# Altium footprint library Altera Footprints.PcbLib: 132 footprints (part 7 of 12)
Each footprint in its own frame and in the unit in brackets; x right, y up, seen from the top. Pads: shape width x height; smd on the part's side, far side on the other; paste and mask are expansions set on the pad; w line width, h text height; cw(c..) or ccw(c..) is an arc to the next point about the centre after c.
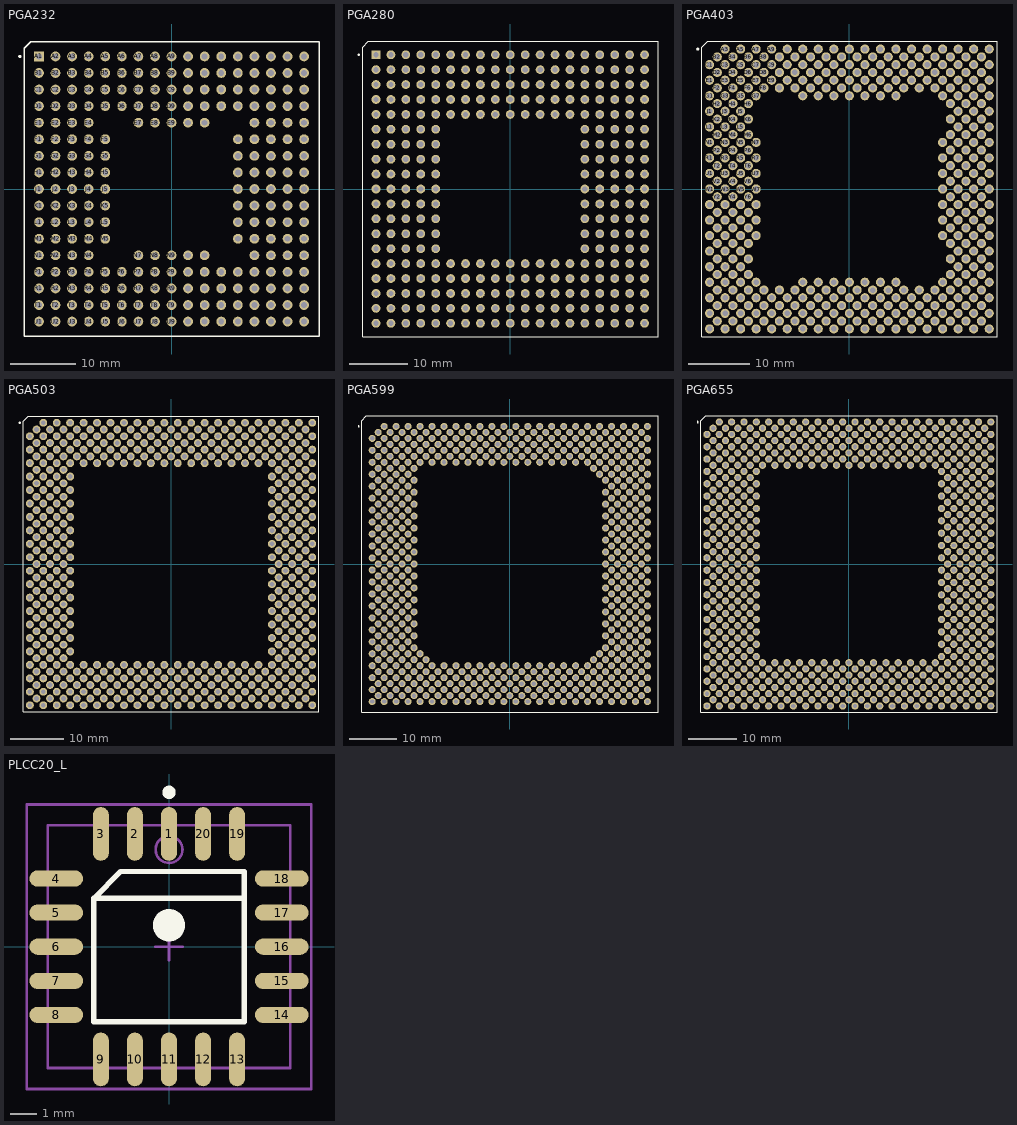
[diagram p6: the footprints below, top view; thin cyan lines are the x and y axes]

## PGA232 [mm] "232-Pin Ceramic Pin Grid Array (PGA232)"
height 5.21
pads (232):
  rect 1.5x1.5 hole 0.9: A1(-20.32,20.32)
  round 1.5 hole 0.9: A2(-17.78,20.32) A3(-15.24,20.32) A4(-12.7,20.32) A5(-10.16,20.32) A6(-7.62,20.32) A7(-5.08,20.32) A8(-2.54,20.32) A9(0,20.32) A10(2.54,20.32) A11(5.08,20.32) A12(7.62,20.32) A13(10.16,20.32) A14(12.7,20.32) A15(15.24,20.32) A16(17.78,20.32) A17(20.32,20.32) B1(-20.32,17.78) B2(-17.78,17.78) B3(-15.24,17.78) B4(-12.7,17.78) B5(-10.16,17.78) B6(-7.62,17.78) B7(-5.08,17.78) B8(-2.54,17.78) B9(0,17.78) B10(2.54,17.78) B11(5.08,17.78) B12(7.62,17.78) B13(10.16,17.78) B14(12.7,17.78) B15(15.24,17.78) B16(17.78,17.78) B17(20.32,17.78) C1(-20.32,15.24) C2(-17.78,15.24) C3(-15.24,15.24) C4(-12.7,15.24) C5(-10.16,15.24) C6(-7.62,15.24) C7(-5.08,15.24) C8(-2.54,15.24) C9(0,15.24) C10(2.54,15.24) C11(5.08,15.24) C12(7.62,15.24) C13(10.16,15.24) C14(12.7,15.24) C15(15.24,15.24) C16(17.78,15.24) C17(20.32,15.24) D1(-20.32,12.7) D2(-17.78,12.7) D3(-15.24,12.7) D4(-12.7,12.7) D5(-10.16,12.7) D6(-7.62,12.7) D7(-5.08,12.7) D8(-2.54,12.7) D9(0,12.7) D10(2.54,12.7) D11(5.08,12.7) D12(7.62,12.7) D13(10.16,12.7) D14(12.7,12.7) D15(15.24,12.7) D16(17.78,12.7) D17(20.32,12.7) E1(-20.32,10.16) E2(-17.78,10.16) E3(-15.24,10.16) E4(-12.7,10.16) E7(-5.08,10.16) E8(-2.54,10.16) E9(0,10.16) E10(2.54,10.16) E11(5.08,10.16) E14(12.7,10.16) E15(15.24,10.16) E16(17.78,10.16) E17(20.32,10.16) F1(-20.32,7.62) F2(-17.78,7.62) F3(-15.24,7.62) F4(-12.7,7.62) F5(-10.16,7.62) F13(10.16,7.62) F14(12.7,7.62) F15(15.24,7.62) F16(17.78,7.62) F17(20.32,7.62) G1(-20.32,5.08) G2(-17.78,5.08) G3(-15.24,5.08) G4(-12.7,5.08) G5(-10.16,5.08) G13(10.16,5.08) G14(12.7,5.08) G15(15.24,5.08) G16(17.78,5.08) G17(20.32,5.08) H1(-20.32,2.54) H2(-17.78,2.54) H3(-15.24,2.54) H4(-12.7,2.54) H5(-10.16,2.54) H13(10.16,2.54) H14(12.7,2.54) H15(15.24,2.54) H16(17.78,2.54) H17(20.32,2.54) J1(-20.32,0) J2(-17.78,0) J3(-15.24,0) J4(-12.7,0) J5(-10.16,0) J13(10.16,0) J14(12.7,0) J15(15.24,0) J16(17.78,0) J17(20.32,0) K1(-20.32,-2.54) K2(-17.78,-2.54) K3(-15.24,-2.54) K4(-12.7,-2.54) K5(-10.16,-2.54) K13(10.16,-2.54) K14(12.7,-2.54) K15(15.24,-2.54) K16(17.78,-2.54) K17(20.32,-2.54) L1(-20.32,-5.08) L2(-17.78,-5.08) L3(-15.24,-5.08) L4(-12.7,-5.08) L5(-10.16,-5.08) L13(10.16,-5.08) L14(12.7,-5.08) L15(15.24,-5.08) L16(17.78,-5.08) L17(20.32,-5.08) M1(-20.32,-7.62) M2(-17.78,-7.62) M3(-15.24,-7.62) M4(-12.7,-7.62) M5(-10.16,-7.62) M13(10.16,-7.62) M14(12.7,-7.62) M15(15.24,-7.62) M16(17.78,-7.62) M17(20.32,-7.62) N1(-20.32,-10.16) N2(-17.78,-10.16) N3(-15.24,-10.16) N4(-12.7,-10.16) N7(-5.08,-10.16) N8(-2.54,-10.16) N9(0,-10.16) N10(2.54,-10.16) N11(5.08,-10.16) N14(12.7,-10.16) N15(15.24,-10.16) N16(17.78,-10.16) N17(20.32,-10.16) P1(-20.32,-12.7) P2(-17.78,-12.7) P3(-15.24,-12.7) P4(-12.7,-12.7) P5(-10.16,-12.7) P6(-7.62,-12.7) P7(-5.08,-12.7) P8(-2.54,-12.7) P9(0,-12.7) P10(2.54,-12.7) P11(5.08,-12.7) P12(7.62,-12.7) P13(10.16,-12.7) P14(12.7,-12.7) P15(15.24,-12.7) P16(17.78,-12.7) P17(20.32,-12.7) R1(-20.32,-15.24) R2(-17.78,-15.24) R3(-15.24,-15.24) R4(-12.7,-15.24) R5(-10.16,-15.24) R6(-7.62,-15.24) R7(-5.08,-15.24) R8(-2.54,-15.24) R9(0,-15.24) R10(2.54,-15.24) R11(5.08,-15.24) R12(7.62,-15.24) R13(10.16,-15.24) R14(12.7,-15.24) R15(15.24,-15.24) R16(17.78,-15.24) R17(20.32,-15.24) T1(-20.32,-17.78) T2(-17.78,-17.78) T3(-15.24,-17.78) T4(-12.7,-17.78) T5(-10.16,-17.78) T6(-7.62,-17.78) T7(-5.08,-17.78) T8(-2.54,-17.78) T9(0,-17.78) T10(2.54,-17.78) T11(5.08,-17.78) T12(7.62,-17.78) T13(10.16,-17.78) T14(12.7,-17.78) T15(15.24,-17.78) T16(17.78,-17.78) T17(20.32,-17.78) U1(-20.32,-20.32) U2(-17.78,-20.32) U3(-15.24,-20.32) U4(-12.7,-20.32) U5(-10.16,-20.32) U6(-7.62,-20.32) U7(-5.08,-20.32) U8(-2.54,-20.32) U9(0,-20.32) U10(2.54,-20.32) U11(5.08,-20.32) U12(7.62,-20.32) U13(10.16,-20.32) U14(12.7,-20.32) U15(15.24,-20.32) U16(17.78,-20.32) U17(20.32,-20.32)
Top Overlay:
  circle w0.25: c-23.25,20.32 r0.125
  lines w0.2: -22.6,-22.6 22.6,-22.6 22.6,22.6 -21.6,22.6 -22.6,21.6 -22.6,-22.6

## PGA280 [mm] "280-Pin Ceramic Pin Grid Array (PGA280)"
height 5.08
pads (280):
  rect 1.5x1.5 hole 0.9: A1(-22.86,22.86)
  round 1.5 hole 0.9: A2(-20.32,22.86) A3(-17.78,22.86) A4(-15.24,22.86) A5(-12.7,22.86) A6(-10.16,22.86) A7(-7.62,22.86) A8(-5.08,22.86) A9(-2.54,22.86) A10(0,22.86) A11(2.54,22.86) A12(5.08,22.86) A13(7.62,22.86) A14(10.16,22.86) A15(12.7,22.86) A16(15.24,22.86) A17(17.78,22.86) A18(20.32,22.86) A19(22.86,22.86) B1(-22.86,20.32) B2(-20.32,20.32) B3(-17.78,20.32) B4(-15.24,20.32) B5(-12.7,20.32) B6(-10.16,20.32) B7(-7.62,20.32) B8(-5.08,20.32) B9(-2.54,20.32) B10(0,20.32) B11(2.54,20.32) B12(5.08,20.32) B13(7.62,20.32) B14(10.16,20.32) B15(12.7,20.32) B16(15.24,20.32) B17(17.78,20.32) B18(20.32,20.32) B19(22.86,20.32) C1(-22.86,17.78) C2(-20.32,17.78) C3(-17.78,17.78) C4(-15.24,17.78) C5(-12.7,17.78) C6(-10.16,17.78) C7(-7.62,17.78) C8(-5.08,17.78) C9(-2.54,17.78) C10(0,17.78) C11(2.54,17.78) C12(5.08,17.78) C13(7.62,17.78) C14(10.16,17.78) C15(12.7,17.78) C16(15.24,17.78) C17(17.78,17.78) C18(20.32,17.78) C19(22.86,17.78) D1(-22.86,15.24) D2(-20.32,15.24) D3(-17.78,15.24) D4(-15.24,15.24) D5(-12.7,15.24) D6(-10.16,15.24) D7(-7.62,15.24) D8(-5.08,15.24) D9(-2.54,15.24) D10(0,15.24) D11(2.54,15.24) D12(5.08,15.24) D13(7.62,15.24) D14(10.16,15.24) D15(12.7,15.24) D16(15.24,15.24) D17(17.78,15.24) D18(20.32,15.24) D19(22.86,15.24) E1(-22.86,12.7) E2(-20.32,12.7) E3(-17.78,12.7) E4(-15.24,12.7) E5(-12.7,12.7) E6(-10.16,12.7) E7(-7.62,12.7) E8(-5.08,12.7) E9(-2.54,12.7) E10(0,12.7) E11(2.54,12.7) E12(5.08,12.7) E13(7.62,12.7) E14(10.16,12.7) E15(12.7,12.7) E16(15.24,12.7) E17(17.78,12.7) E18(20.32,12.7) E19(22.86,12.7) F1(-22.86,10.16) F2(-20.32,10.16) F3(-17.78,10.16) F4(-15.24,10.16) F5(-12.7,10.16) F15(12.7,10.16) F16(15.24,10.16) F17(17.78,10.16) F18(20.32,10.16) F19(22.86,10.16) G1(-22.86,7.62) G2(-20.32,7.62) G3(-17.78,7.62) G4(-15.24,7.62) G5(-12.7,7.62) G15(12.7,7.62) G16(15.24,7.62) G17(17.78,7.62) G18(20.32,7.62) G19(22.86,7.62) H1(-22.86,5.08) H2(-20.32,5.08) H3(-17.78,5.08) H4(-15.24,5.08) H5(-12.7,5.08) H15(12.7,5.08) H16(15.24,5.08) H17(17.78,5.08) H18(20.32,5.08) H19(22.86,5.08) J1(-22.86,2.54) J2(-20.32,2.54) J3(-17.78,2.54) J4(-15.24,2.54) J5(-12.7,2.54) J15(12.7,2.54) J16(15.24,2.54) J17(17.78,2.54) J18(20.32,2.54) J19(22.86,2.54) K1(-22.86,0) K2(-20.32,0) K3(-17.78,0) K4(-15.24,0) K5(-12.7,0) K15(12.7,0) K16(15.24,0) K17(17.78,0) K18(20.32,0) K19(22.86,0) L1(-22.86,-2.54) L2(-20.32,-2.54) L3(-17.78,-2.54) L4(-15.24,-2.54) L5(-12.7,-2.54) L15(12.7,-2.54) L16(15.24,-2.54) L17(17.78,-2.54) L18(20.32,-2.54) L19(22.86,-2.54) M1(-22.86,-5.08) M2(-20.32,-5.08) M3(-17.78,-5.08) M4(-15.24,-5.08) M5(-12.7,-5.08) M15(12.7,-5.08) M16(15.24,-5.08) M17(17.78,-5.08) M18(20.32,-5.08) M19(22.86,-5.08) N1(-22.86,-7.62) N2(-20.32,-7.62) N3(-17.78,-7.62) N4(-15.24,-7.62) N5(-12.7,-7.62) N15(12.7,-7.62) N16(15.24,-7.62) N17(17.78,-7.62) N18(20.32,-7.62) N19(22.86,-7.62) P1(-22.86,-10.16) P2(-20.32,-10.16) P3(-17.78,-10.16) P4(-15.24,-10.16) P5(-12.7,-10.16) P15(12.7,-10.16) P16(15.24,-10.16) P17(17.78,-10.16) P18(20.32,-10.16) P19(22.86,-10.16) R1(-22.86,-12.7) R2(-20.32,-12.7) R3(-17.78,-12.7) R4(-15.24,-12.7) R5(-12.7,-12.7) R6(-10.16,-12.7) R7(-7.62,-12.7) R8(-5.08,-12.7) R9(-2.54,-12.7) R10(0,-12.7) R11(2.54,-12.7) R12(5.08,-12.7) R13(7.62,-12.7) R14(10.16,-12.7) R15(12.7,-12.7) R16(15.24,-12.7) R17(17.78,-12.7) R18(20.32,-12.7) R19(22.86,-12.7) T1(-22.86,-15.24) T2(-20.32,-15.24) T3(-17.78,-15.24) T4(-15.24,-15.24) T5(-12.7,-15.24) T6(-10.16,-15.24) T7(-7.62,-15.24) T8(-5.08,-15.24) T9(-2.54,-15.24) T10(0,-15.24) T11(2.54,-15.24) T12(5.08,-15.24) T13(7.62,-15.24) T14(10.16,-15.24) T15(12.7,-15.24) T16(15.24,-15.24) T17(17.78,-15.24) T18(20.32,-15.24) T19(22.86,-15.24) U1(-22.86,-17.78) U2(-20.32,-17.78) U3(-17.78,-17.78) U4(-15.24,-17.78) U5(-12.7,-17.78) U6(-10.16,-17.78) U7(-7.62,-17.78) U8(-5.08,-17.78) U9(-2.54,-17.78) U10(0,-17.78) U11(2.54,-17.78) U12(5.08,-17.78) U13(7.62,-17.78) U14(10.16,-17.78) U15(12.7,-17.78) U16(15.24,-17.78) U17(17.78,-17.78) U18(20.32,-17.78) U19(22.86,-17.78) V1(-22.86,-20.32) V2(-20.32,-20.32) V3(-17.78,-20.32) V4(-15.24,-20.32) V5(-12.7,-20.32) V6(-10.16,-20.32) V7(-7.62,-20.32) V8(-5.08,-20.32) V9(-2.54,-20.32) V10(0,-20.32) V11(2.54,-20.32) V12(5.08,-20.32) V13(7.62,-20.32) V14(10.16,-20.32) V15(12.7,-20.32) V16(15.24,-20.32) V17(17.78,-20.32) V18(20.32,-20.32) V19(22.86,-20.32) W1(-22.86,-22.86) W2(-20.32,-22.86) W3(-17.78,-22.86) W4(-15.24,-22.86) W5(-12.7,-22.86) W6(-10.16,-22.86) W7(-7.62,-22.86) W8(-5.08,-22.86) W9(-2.54,-22.86) W10(0,-22.86) W11(2.54,-22.86) W12(5.08,-22.86) W13(7.62,-22.86) W14(10.16,-22.86) W15(12.7,-22.86) W16(15.24,-22.86) W17(17.78,-22.86) W18(20.32,-22.86) W19(22.86,-22.86)
Top Overlay:
  circle w0.25: c-25.8,22.86 r0.125
  lines w0.2: -25.15,-25.15 25.15,-25.15 25.15,25.15 -24.15,25.15 -25.15,24.15 -25.15,-25.15

## PGA403 [mm] "403-Pin Ceramic Pin Grid Array (PGA403)"
height 5.03
pads (403):
  round 1.5 hole 0.9: A3(-20.32,22.86) A5(-17.78,22.86) A7(-15.24,22.86) A9(-12.7,22.86) A11(-10.16,22.86) A13(-7.62,22.86) A15(-5.08,22.86) A17(-2.54,22.86) A19(0,22.86) A21(2.54,22.86) A23(5.08,22.86) A25(7.62,22.86) A27(10.16,22.86) A29(12.7,22.86) A31(15.24,22.86) A33(17.78,22.86) A35(20.32,22.86) A37(22.86,22.86) AA1(-22.86,-2.54) AA3(-20.32,-2.54) AA5(-17.78,-2.54) AA7(-15.24,-2.54) AA31(15.24,-2.54) AA33(17.78,-2.54) AA35(20.32,-2.54) AA37(22.86,-2.54) AB2(-21.59,-3.81) AB4(-19.05,-3.81) AB6(-16.51,-3.81) AB32(16.51,-3.81) AB34(19.05,-3.81) AB36(21.59,-3.81) AC1(-22.86,-5.08) AC3(-20.32,-5.08) AC5(-17.78,-5.08) AC7(-15.24,-5.08) AC31(15.24,-5.08) AC33(17.78,-5.08) AC35(20.32,-5.08) AC37(22.86,-5.08) AD2(-21.59,-6.35) AD4(-19.05,-6.35) AD6(-16.51,-6.35) AD32(16.51,-6.35) AD34(19.05,-6.35) AD36(21.59,-6.35) AE1(-22.86,-7.62) AE3(-20.32,-7.62) AE5(-17.78,-7.62) AE7(-15.24,-7.62) AE31(15.24,-7.62) AE33(17.78,-7.62) AE35(20.32,-7.62) AE37(22.86,-7.62) AF2(-21.59,-8.89) AF4(-19.05,-8.89) AF6(-16.51,-8.89) AF32(16.51,-8.89) AF34(19.05,-8.89) AF36(21.59,-8.89) AG1(-22.86,-10.16) AG3(-20.32,-10.16) AG5(-17.78,-10.16) AG33(17.78,-10.16) AG35(20.32,-10.16) AG37(22.86,-10.16) AH2(-21.59,-11.43) AH4(-19.05,-11.43) AH6(-16.51,-11.43) AH32(16.51,-11.43) AH34(19.05,-11.43) AH36(21.59,-11.43) AJ1(-22.86,-12.7) AJ3(-20.32,-12.7) AJ5(-17.78,-12.7) AJ33(17.78,-12.7) AJ35(20.32,-12.7) AJ37(22.86,-12.7) AK2(-21.59,-13.97) AK4(-19.05,-13.97) AK6(-16.51,-13.97) AK32(16.51,-13.97) AK34(19.05,-13.97) AK36(21.59,-13.97) AL1(-22.86,-15.24) AL3(-20.32,-15.24) AL5(-17.78,-15.24) AL7(-15.24,-15.24) AL13(-7.62,-15.24) AL15(-5.08,-15.24) AL17(-2.54,-15.24) AL19(0,-15.24) AL21(2.54,-15.24) AL23(5.08,-15.24) AL25(7.62,-15.24) AL31(15.24,-15.24) AL33(17.78,-15.24) AL35(20.32,-15.24) AL37(22.86,-15.24) AM2(-21.59,-16.51) AM4(-19.05,-16.51) AM6(-16.51,-16.51) AM8(-13.97,-16.51) AM10(-11.43,-16.51) AM12(-8.89,-16.51) AM14(-6.35,-16.51) AM16(-3.81,-16.51) AM18(-1.27,-16.51) AM20(1.27,-16.51) AM22(3.81,-16.51) AM24(6.35,-16.51) AM26(8.89,-16.51) AM28(11.43,-16.51) AM30(13.97,-16.51) AM32(16.51,-16.51) AM34(19.05,-16.51) AM36(21.59,-16.51) AN1(-22.86,-17.78) AN3(-20.32,-17.78) AN5(-17.78,-17.78) AN7(-15.24,-17.78) AN9(-12.7,-17.78) AN11(-10.16,-17.78) AN13(-7.62,-17.78) AN15(-5.08,-17.78) AN17(-2.54,-17.78) AN19(0,-17.78) AN21(2.54,-17.78) AN23(5.08,-17.78) AN25(7.62,-17.78) AN27(10.16,-17.78) AN29(12.7,-17.78) AN31(15.24,-17.78) AN33(17.78,-17.78) AN35(20.32,-17.78) AN37(22.86,-17.78) AP2(-21.59,-19.05) AP4(-19.05,-19.05) AP6(-16.51,-19.05) AP8(-13.97,-19.05) AP10(-11.43,-19.05) AP12(-8.89,-19.05) AP14(-6.35,-19.05) AP16(-3.81,-19.05) AP18(-1.27,-19.05) AP20(1.27,-19.05) AP22(3.81,-19.05) AP24(6.35,-19.05) AP26(8.89,-19.05) AP28(11.43,-19.05) AP30(13.97,-19.05) AP32(16.51,-19.05) AP34(19.05,-19.05) AP36(21.59,-19.05) AR1(-22.86,-20.32) AR3(-20.32,-20.32) AR5(-17.78,-20.32) AR7(-15.24,-20.32) AR9(-12.7,-20.32) AR11(-10.16,-20.32) AR13(-7.62,-20.32) AR15(-5.08,-20.32) AR17(-2.54,-20.32) AR19(0,-20.32) AR21(2.54,-20.32) AR23(5.08,-20.32) AR25(7.62,-20.32) AR27(10.16,-20.32) AR29(12.7,-20.32) AR31(15.24,-20.32) AR33(17.78,-20.32) AR35(20.32,-20.32) AR37(22.86,-20.32) AT2(-21.59,-21.59) AT4(-19.05,-21.59) AT6(-16.51,-21.59) AT8(-13.97,-21.59) AT10(-11.43,-21.59) AT12(-8.89,-21.59) AT14(-6.35,-21.59) AT16(-3.81,-21.59) AT18(-1.27,-21.59) AT20(1.27,-21.59) AT22(3.81,-21.59) AT24(6.35,-21.59) AT26(8.89,-21.59) AT28(11.43,-21.59) AT30(13.97,-21.59) AT32(16.51,-21.59) AT34(19.05,-21.59) AT36(21.59,-21.59) AU1(-22.86,-22.86) AU3(-20.32,-22.86) AU5(-17.78,-22.86) AU7(-15.24,-22.86) AU9(-12.7,-22.86) AU11(-10.16,-22.86) AU13(-7.62,-22.86) AU15(-5.08,-22.86) AU17(-2.54,-22.86) AU19(0,-22.86) AU21(2.54,-22.86) AU23(5.08,-22.86) AU25(7.62,-22.86) AU27(10.16,-22.86) AU29(12.7,-22.86) AU31(15.24,-22.86) AU33(17.78,-22.86) AU35(20.32,-22.86) AU37(22.86,-22.86) B2(-21.59,21.59) B4(-19.05,21.59) B6(-16.51,21.59) B8(-13.97,21.59) B10(-11.43,21.59) B12(-8.89,21.59) B14(-6.35,21.59) B16(-3.81,21.59) B18(-1.27,21.59) B20(1.27,21.59) B22(3.81,21.59) B24(6.35,21.59) B26(8.89,21.59) B28(11.43,21.59) B30(13.97,21.59) B32(16.51,21.59) B34(19.05,21.59) B36(21.59,21.59) C1(-22.86,20.32) C3(-20.32,20.32) C5(-17.78,20.32) C7(-15.24,20.32) C9(-12.7,20.32) C11(-10.16,20.32) C13(-7.62,20.32) C15(-5.08,20.32) C17(-2.54,20.32) C19(0,20.32) C21(2.54,20.32) C23(5.08,20.32) C25(7.62,20.32) C27(10.16,20.32) C29(12.7,20.32) C31(15.24,20.32) C33(17.78,20.32) C35(20.32,20.32) C37(22.86,20.32) D2(-21.59,19.05) D4(-19.05,19.05) D6(-16.51,19.05) D8(-13.97,19.05) D10(-11.43,19.05) D12(-8.89,19.05) D14(-6.35,19.05) D16(-3.81,19.05) D18(-1.27,19.05) D20(1.27,19.05) D22(3.81,19.05) D24(6.35,19.05) D26(8.89,19.05) D28(11.43,19.05) D30(13.97,19.05) D32(16.51,19.05) D34(19.05,19.05) D36(21.59,19.05) E1(-22.86,17.78) E3(-20.32,17.78) E5(-17.78,17.78) E7(-15.24,17.78) E9(-12.7,17.78) E11(-10.16,17.78) E13(-7.62,17.78) E15(-5.08,17.78) E17(-2.54,17.78) E19(0,17.78) E21(2.54,17.78) E23(5.08,17.78) E25(7.62,17.78) E27(10.16,17.78) E29(12.7,17.78) E31(15.24,17.78) E33(17.78,17.78) E35(20.32,17.78) E37(22.86,17.78) F2(-21.59,16.51) F4(-19.05,16.51) F6(-16.51,16.51) F8(-13.97,16.51) F10(-11.43,16.51) F12(-8.89,16.51) F14(-6.35,16.51) F16(-3.81,16.51) F18(-1.27,16.51) F20(1.27,16.51) F22(3.81,16.51) F24(6.35,16.51) F26(8.89,16.51) F28(11.43,16.51) F30(13.97,16.51) F32(16.51,16.51) F34(19.05,16.51) F36(21.59,16.51) G1(-22.86,15.24) G3(-20.32,15.24) G5(-17.78,15.24) G7(-15.24,15.24) G13(-7.62,15.24) G15(-5.08,15.24) G17(-2.54,15.24) G19(0,15.24) G21(2.54,15.24) G23(5.08,15.24) G25(7.62,15.24) G31(15.24,15.24) G33(17.78,15.24) G35(20.32,15.24) G37(22.86,15.24) H2(-21.59,13.97) H4(-19.05,13.97) H6(-16.51,13.97) H32(16.51,13.97) H34(19.05,13.97) H36(21.59,13.97) J1(-22.86,12.7) J3(-20.32,12.7) J5(-17.78,12.7) J33(17.78,12.7) J35(20.32,12.7) J37(22.86,12.7) K2(-21.59,11.43) K4(-19.05,11.43) K6(-16.51,11.43) K32(16.51,11.43) K34(19.05,11.43) K36(21.59,11.43) L1(-22.86,10.16) L3(-20.32,10.16) L5(-17.78,10.16) L33(17.78,10.16) L35(20.32,10.16) L37(22.86,10.16) M2(-21.59,8.89) M4(-19.05,8.89) M6(-16.51,8.89) M32(16.51,8.89) M34(19.05,8.89) M36(21.59,8.89) N1(-22.86,7.62) N3(-20.32,7.62) N5(-17.78,7.62) N7(-15.24,7.62) N31(15.24,7.62) N33(17.78,7.62) N35(20.32,7.62) N37(22.86,7.62) P2(-21.59,6.35) P4(-19.05,6.35) P6(-16.51,6.35) P32(16.51,6.35) P34(19.05,6.35) P36(21.59,6.35) R1(-22.86,5.08) R3(-20.32,5.08) R5(-17.78,5.08) R7(-15.24,5.08) R31(15.24,5.08) R33(17.78,5.08) R35(20.32,5.08) R37(22.86,5.08) T2(-21.59,3.81) T4(-19.05,3.81) T6(-16.51,3.81) T32(16.51,3.81) T34(19.05,3.81) T36(21.59,3.81) U1(-22.86,2.54) U3(-20.32,2.54) U5(-17.78,2.54) U7(-15.24,2.54) U31(15.24,2.54) U33(17.78,2.54) U35(20.32,2.54) U37(22.86,2.54) V2(-21.59,1.27) V4(-19.05,1.27) V6(-16.51,1.27) V32(16.51,1.27) V34(19.05,1.27) V36(21.59,1.27) W1(-22.86,0) W3(-20.32,0) W5(-17.78,0) W7(-15.24,0) W31(15.24,0) W33(17.78,0) W35(20.32,0) W37(22.86,0) Y2(-21.59,-1.27) Y4(-19.05,-1.27) Y6(-16.51,-1.27) Y32(16.51,-1.27) Y34(19.05,-1.27) Y36(21.59,-1.27)
Top Overlay:
  circle w0.25: c-24.78,22.86 r0.125
  lines w0.2: -24.13,-24.13 24.13,-24.13 24.13,24.13 -23.13,24.13 -24.13,23.13 -24.13,-24.13

## PGA503 [mm] "503-Pin Ceramic Pin Grid Array (PGA503)"
height 5.08
pads (503):
  round 1.5 hole 0.9: A3(-24.13,26.67) A5(-21.59,26.67) A7(-19.05,26.67) A9(-16.51,26.67) A11(-13.97,26.67) A13(-11.43,26.67) A15(-8.89,26.67) A17(-6.35,26.67) A19(-3.81,26.67) A21(-1.27,26.67) A23(1.27,26.67) A25(3.81,26.67) A27(6.35,26.67) A29(8.89,26.67) A31(11.43,26.67) A33(13.97,26.67) A35(16.51,26.67) A37(19.05,26.67) A39(21.59,26.67) A41(24.13,26.67) A43(26.67,26.67) AA1(-26.67,1.27) AA3(-24.13,1.27) AA5(-21.59,1.27) AA7(-19.05,1.27) AA37(19.05,1.27) AA39(21.59,1.27) AA41(24.13,1.27) AA43(26.67,1.27) AB2(-25.4,0) AB4(-22.86,0) AB6(-20.32,0) AB38(20.32,0) AB40(22.86,0) AB42(25.4,0) AC1(-26.67,-1.27) AC3(-24.13,-1.27) AC5(-21.59,-1.27) AC7(-19.05,-1.27) AC37(19.05,-1.27) AC39(21.59,-1.27) AC41(24.13,-1.27) AC43(26.67,-1.27) AD2(-25.4,-2.54) AD4(-22.86,-2.54) AD6(-20.32,-2.54) AD38(20.32,-2.54) AD40(22.86,-2.54) AD42(25.4,-2.54) AE1(-26.67,-3.81) AE3(-24.13,-3.81) AE5(-21.59,-3.81) AE7(-19.05,-3.81) AE37(19.05,-3.81) AE39(21.59,-3.81) AE41(24.13,-3.81) AE43(26.67,-3.81) AF2(-25.4,-5.08) AF4(-22.86,-5.08) AF6(-20.32,-5.08) AF38(20.32,-5.08) AF40(22.86,-5.08) AF42(25.4,-5.08) AG1(-26.67,-6.35) AG3(-24.13,-6.35) AG5(-21.59,-6.35) AG7(-19.05,-6.35) AG37(19.05,-6.35) AG39(21.59,-6.35) AG41(24.13,-6.35) AG43(26.67,-6.35) AH2(-25.4,-7.62) AH4(-22.86,-7.62) AH6(-20.32,-7.62) AH38(20.32,-7.62) AH40(22.86,-7.62) AH42(25.4,-7.62) AJ1(-26.67,-8.89) AJ3(-24.13,-8.89) AJ5(-21.59,-8.89) AJ7(-19.05,-8.89) AJ37(19.05,-8.89) AJ39(21.59,-8.89) AJ41(24.13,-8.89) AJ43(26.67,-8.89) AK2(-25.4,-10.16) AK4(-22.86,-10.16) AK6(-20.32,-10.16) AK38(20.32,-10.16) AK40(22.86,-10.16) AK42(25.4,-10.16) AL1(-26.67,-11.43) AL3(-24.13,-11.43) AL5(-21.59,-11.43) AL7(-19.05,-11.43) AL37(19.05,-11.43) AL39(21.59,-11.43) AL41(24.13,-11.43) AL43(26.67,-11.43) AM2(-25.4,-12.7) AM4(-22.86,-12.7) AM6(-20.32,-12.7) AM38(20.32,-12.7) AM40(22.86,-12.7) AM42(25.4,-12.7) AN1(-26.67,-13.97) AN3(-24.13,-13.97) AN5(-21.59,-13.97) AN7(-19.05,-13.97) AN37(19.05,-13.97) AN39(21.59,-13.97) AN41(24.13,-13.97) AN43(26.67,-13.97) AP2(-25.4,-15.24) AP4(-22.86,-15.24) AP6(-20.32,-15.24) AP38(20.32,-15.24) AP40(22.86,-15.24) AP42(25.4,-15.24) AR1(-26.67,-16.51) AR3(-24.13,-16.51) AR5(-21.59,-16.51) AR7(-19.05,-16.51) AR37(19.05,-16.51) AR39(21.59,-16.51) AR41(24.13,-16.51) AR43(26.67,-16.51) AT2(-25.4,-17.78) AT4(-22.86,-17.78) AT6(-20.32,-17.78) AT38(20.32,-17.78) AT40(22.86,-17.78) AT42(25.4,-17.78) AU1(-26.67,-19.05) AU3(-24.13,-19.05) AU5(-21.59,-19.05) AU7(-19.05,-19.05) AU9(-16.51,-19.05) AU11(-13.97,-19.05) AU13(-11.43,-19.05) AU15(-8.89,-19.05) AU17(-6.35,-19.05) AU19(-3.81,-19.05) AU21(-1.27,-19.05) AU23(1.27,-19.05) AU25(3.81,-19.05) AU27(6.35,-19.05) AU29(8.89,-19.05) AU31(11.43,-19.05) AU33(13.97,-19.05) AU35(16.51,-19.05) AU37(19.05,-19.05) AU39(21.59,-19.05) AU41(24.13,-19.05) AU43(26.67,-19.05) AV2(-25.4,-20.32) AV4(-22.86,-20.32) AV6(-20.32,-20.32) AV8(-17.78,-20.32) AV10(-15.24,-20.32) AV12(-12.7,-20.32) AV14(-10.16,-20.32) AV16(-7.62,-20.32) AV18(-5.08,-20.32) AV20(-2.54,-20.32) AV22(0,-20.32) AV24(2.54,-20.32) AV26(5.08,-20.32) AV28(7.62,-20.32) AV30(10.16,-20.32) AV32(12.7,-20.32) AV34(15.24,-20.32) AV36(17.78,-20.32) AV38(20.32,-20.32) AV40(22.86,-20.32) AV42(25.4,-20.32) AW1(-26.67,-21.59) AW3(-24.13,-21.59) AW5(-21.59,-21.59) AW7(-19.05,-21.59) AW9(-16.51,-21.59) AW11(-13.97,-21.59) AW13(-11.43,-21.59) AW15(-8.89,-21.59) AW17(-6.35,-21.59) AW19(-3.81,-21.59) AW21(-1.27,-21.59) AW23(1.27,-21.59) AW25(3.81,-21.59) AW27(6.35,-21.59) AW29(8.89,-21.59) AW31(11.43,-21.59) AW33(13.97,-21.59) AW35(16.51,-21.59) AW37(19.05,-21.59) AW39(21.59,-21.59) AW41(24.13,-21.59) AW43(26.67,-21.59) AY2(-25.4,-22.86) AY4(-22.86,-22.86) AY6(-20.32,-22.86) AY8(-17.78,-22.86) AY10(-15.24,-22.86) AY12(-12.7,-22.86) AY14(-10.16,-22.86) AY16(-7.62,-22.86) AY18(-5.08,-22.86) AY20(-2.54,-22.86) AY22(0,-22.86) AY24(2.54,-22.86) AY26(5.08,-22.86) AY28(7.62,-22.86) AY30(10.16,-22.86) AY32(12.7,-22.86) AY34(15.24,-22.86) AY36(17.78,-22.86) AY38(20.32,-22.86) AY40(22.86,-22.86) AY42(25.4,-22.86) B2(-25.4,25.4) B4(-22.86,25.4) B6(-20.32,25.4) B8(-17.78,25.4) B10(-15.24,25.4) B12(-12.7,25.4) B14(-10.16,25.4) B16(-7.62,25.4) B18(-5.08,25.4) B20(-2.54,25.4) B22(0,25.4) B24(2.54,25.4) B26(5.08,25.4) B28(7.62,25.4) B30(10.16,25.4) B32(12.7,25.4) B34(15.24,25.4) B36(17.78,25.4) B38(20.32,25.4) B40(22.86,25.4) B42(25.4,25.4) BA1(-26.67,-24.13) BA3(-24.13,-24.13) BA5(-21.59,-24.13) BA7(-19.05,-24.13) BA9(-16.51,-24.13) BA11(-13.97,-24.13) BA13(-11.43,-24.13) BA15(-8.89,-24.13) BA17(-6.35,-24.13) BA19(-3.81,-24.13) BA21(-1.27,-24.13) BA23(1.27,-24.13) BA25(3.81,-24.13) BA27(6.35,-24.13) BA29(8.89,-24.13) BA31(11.43,-24.13) BA33(13.97,-24.13) BA35(16.51,-24.13) BA37(19.05,-24.13) BA39(21.59,-24.13) BA41(24.13,-24.13) BA43(26.67,-24.13) BB2(-25.4,-25.4) BB4(-22.86,-25.4) BB6(-20.32,-25.4) BB8(-17.78,-25.4) BB10(-15.24,-25.4) BB12(-12.7,-25.4) BB14(-10.16,-25.4) BB16(-7.62,-25.4) BB18(-5.08,-25.4) BB20(-2.54,-25.4) BB22(0,-25.4) BB24(2.54,-25.4) BB26(5.08,-25.4) BB28(7.62,-25.4) BB30(10.16,-25.4) BB32(12.7,-25.4) BB34(15.24,-25.4) BB36(17.78,-25.4) BB38(20.32,-25.4) BB40(22.86,-25.4) BB42(25.4,-25.4) BC1(-26.67,-26.67) BC3(-24.13,-26.67) BC5(-21.59,-26.67) BC7(-19.05,-26.67) BC9(-16.51,-26.67) BC11(-13.97,-26.67) BC13(-11.43,-26.67) BC15(-8.89,-26.67) BC17(-6.35,-26.67) BC19(-3.81,-26.67) BC21(-1.27,-26.67) BC23(1.27,-26.67) BC25(3.81,-26.67) BC27(6.35,-26.67) BC29(8.89,-26.67) BC31(11.43,-26.67) BC33(13.97,-26.67) BC35(16.51,-26.67) BC37(19.05,-26.67) BC39(21.59,-26.67) BC41(24.13,-26.67) BC43(26.67,-26.67) C1(-26.67,24.13) C3(-24.13,24.13) C5(-21.59,24.13) C7(-19.05,24.13) C9(-16.51,24.13) C11(-13.97,24.13) C13(-11.43,24.13) C15(-8.89,24.13) C17(-6.35,24.13) C19(-3.81,24.13) C21(-1.27,24.13) C23(1.27,24.13) C25(3.81,24.13) C27(6.35,24.13) C29(8.89,24.13) C31(11.43,24.13) C33(13.97,24.13) C35(16.51,24.13) C37(19.05,24.13) C39(21.59,24.13) C41(24.13,24.13) C43(26.67,24.13) D2(-25.4,22.86) D4(-22.86,22.86) D6(-20.32,22.86) D8(-17.78,22.86) D10(-15.24,22.86) D12(-12.7,22.86) D14(-10.16,22.86) D16(-7.62,22.86) D18(-5.08,22.86) D20(-2.54,22.86) D22(0,22.86) D24(2.54,22.86) D26(5.08,22.86) D28(7.62,22.86) D30(10.16,22.86) D32(12.7,22.86) D34(15.24,22.86) D36(17.78,22.86) D38(20.32,22.86) D40(22.86,22.86) D42(25.4,22.86) E1(-26.67,21.59) E3(-24.13,21.59) E5(-21.59,21.59) E7(-19.05,21.59) E9(-16.51,21.59) E11(-13.97,21.59) E13(-11.43,21.59) E15(-8.89,21.59) E17(-6.35,21.59) E19(-3.81,21.59) E21(-1.27,21.59) E23(1.27,21.59) E25(3.81,21.59) E27(6.35,21.59) E29(8.89,21.59) E31(11.43,21.59) E33(13.97,21.59) E35(16.51,21.59) E37(19.05,21.59) E39(21.59,21.59) E41(24.13,21.59) E43(26.67,21.59) F2(-25.4,20.32) F4(-22.86,20.32) F6(-20.32,20.32) F8(-17.78,20.32) F10(-15.24,20.32) F12(-12.7,20.32) F14(-10.16,20.32) F16(-7.62,20.32) F18(-5.08,20.32) F20(-2.54,20.32) F22(0,20.32) F24(2.54,20.32) F26(5.08,20.32) F28(7.62,20.32) F30(10.16,20.32) F32(12.7,20.32) F34(15.24,20.32) F36(17.78,20.32) F38(20.32,20.32) F40(22.86,20.32) F42(25.4,20.32) G1(-26.67,19.05) G3(-24.13,19.05) G5(-21.59,19.05) G7(-19.05,19.05) G9(-16.51,19.05) G11(-13.97,19.05) G13(-11.43,19.05) G15(-8.89,19.05) G17(-6.35,19.05) G19(-3.81,19.05) G21(-1.27,19.05) G23(1.27,19.05) G25(3.81,19.05) G27(6.35,19.05) G29(8.89,19.05) G31(11.43,19.05) G33(13.97,19.05) G35(16.51,19.05) G37(19.05,19.05) G39(21.59,19.05) G41(24.13,19.05) G43(26.67,19.05) H2(-25.4,17.78) H4(-22.86,17.78) H6(-20.32,17.78) H38(20.32,17.78) H40(22.86,17.78) H42(25.4,17.78) J1(-26.67,16.51) J3(-24.13,16.51) J5(-21.59,16.51) J7(-19.05,16.51) J37(19.05,16.51) J39(21.59,16.51) J41(24.13,16.51) J43(26.67,16.51) K2(-25.4,15.24) K4(-22.86,15.24) K6(-20.32,15.24) K38(20.32,15.24) K40(22.86,15.24) K42(25.4,15.24) L1(-26.67,13.97) L3(-24.13,13.97) L5(-21.59,13.97) L7(-19.05,13.97) L37(19.05,13.97) L39(21.59,13.97) L41(24.13,13.97) L43(26.67,13.97) M2(-25.4,12.7) M4(-22.86,12.7) M6(-20.32,12.7) M38(20.32,12.7) M40(22.86,12.7) M42(25.4,12.7) N1(-26.67,11.43) N3(-24.13,11.43) N5(-21.59,11.43) N7(-19.05,11.43) N37(19.05,11.43) N39(21.59,11.43) N41(24.13,11.43) N43(26.67,11.43) P2(-25.4,10.16) P4(-22.86,10.16) P6(-20.32,10.16) P38(20.32,10.16) P40(22.86,10.16) P42(25.4,10.16) R1(-26.67,8.89) R3(-24.13,8.89) R5(-21.59,8.89) R7(-19.05,8.89) R37(19.05,8.89) R39(21.59,8.89) R41(24.13,8.89) R43(26.67,8.89) T2(-25.4,7.62) T4(-22.86,7.62) T6(-20.32,7.62) T38(20.32,7.62) T40(22.86,7.62) T42(25.4,7.62) U1(-26.67,6.35) U3(-24.13,6.35) U5(-21.59,6.35) U7(-19.05,6.35) U37(19.05,6.35) U39(21.59,6.35) U41(24.13,6.35) U43(26.67,6.35) V2(-25.4,5.08) V4(-22.86,5.08) V6(-20.32,5.08) V38(20.32,5.08) V40(22.86,5.08) V42(25.4,5.08) W1(-26.67,3.81) W3(-24.13,3.81) W5(-21.59,3.81) W7(-19.05,3.81) W37(19.05,3.81) W39(21.59,3.81) W41(24.13,3.81) W43(26.67,3.81) Y2(-25.4,2.54) Y4(-22.86,2.54) Y6(-20.32,2.54) Y38(20.32,2.54) Y40(22.86,2.54) Y42(25.4,2.54)
Top Overlay:
  circle w0.25: c-28.59,26.67 r0.125
  lines w0.2: -27.94,-27.94 27.94,-27.94 27.94,27.94 -26.94,27.94 -27.94,26.94 -27.94,-27.94

## PGA599 [mm] "599-Pin Ceramic Pin Grid Array (PGA599)"
height 5.08
pads (599):
  round 1.5 hole 0.9: A3(-26.67,29.21) A5(-24.13,29.21) A7(-21.59,29.21) A9(-19.05,29.21) A11(-16.51,29.21) A13(-13.97,29.21) A15(-11.43,29.21) A17(-8.89,29.21) A19(-6.35,29.21) A21(-3.81,29.21) A23(-1.27,29.21) A25(1.27,29.21) A27(3.81,29.21) A29(6.35,29.21) A31(8.89,29.21) A33(11.43,29.21) A35(13.97,29.21) A37(16.51,29.21) A39(19.05,29.21) A41(21.59,29.21) A43(24.13,29.21) A45(26.67,29.21) A47(29.21,29.21) AA1(-29.21,3.81) AA3(-26.67,3.81) AA5(-24.13,3.81) AA7(-21.59,3.81) AA41(21.59,3.81) AA43(24.13,3.81) AA45(26.67,3.81) AA47(29.21,3.81) AB2(-27.94,2.54) AB4(-25.4,2.54) AB6(-22.86,2.54) AB8(-20.32,2.54) AB40(20.32,2.54) AB42(22.86,2.54) AB44(25.4,2.54) AB46(27.94,2.54) AC1(-29.21,1.27) AC3(-26.67,1.27) AC5(-24.13,1.27) AC7(-21.59,1.27) AC41(21.59,1.27) AC43(24.13,1.27) AC45(26.67,1.27) AC47(29.21,1.27) AD2(-27.94,0) AD4(-25.4,0) AD6(-22.86,0) AD8(-20.32,0) AD40(20.32,0) AD42(22.86,0) AD44(25.4,0) AD46(27.94,0) AE1(-29.21,-1.27) AE3(-26.67,-1.27) AE5(-24.13,-1.27) AE7(-21.59,-1.27) AE41(21.59,-1.27) AE43(24.13,-1.27) AE45(26.67,-1.27) AE47(29.21,-1.27) AF2(-27.94,-2.54) AF4(-25.4,-2.54) AF6(-22.86,-2.54) AF8(-20.32,-2.54) AF40(20.32,-2.54) AF42(22.86,-2.54) AF44(25.4,-2.54) AF46(27.94,-2.54) AG1(-29.21,-3.81) AG3(-26.67,-3.81) AG5(-24.13,-3.81) AG7(-21.59,-3.81) AG41(21.59,-3.81) AG43(24.13,-3.81) AG45(26.67,-3.81) AG47(29.21,-3.81) AH2(-27.94,-5.08) AH4(-25.4,-5.08) AH6(-22.86,-5.08) AH8(-20.32,-5.08) AH40(20.32,-5.08) AH42(22.86,-5.08) AH44(25.4,-5.08) AH46(27.94,-5.08) AJ1(-29.21,-6.35) AJ3(-26.67,-6.35) AJ5(-24.13,-6.35) AJ7(-21.59,-6.35) AJ41(21.59,-6.35) AJ43(24.13,-6.35) AJ45(26.67,-6.35) AJ47(29.21,-6.35) AK2(-27.94,-7.62) AK4(-25.4,-7.62) AK6(-22.86,-7.62) AK8(-20.32,-7.62) AK40(20.32,-7.62) AK42(22.86,-7.62) AK44(25.4,-7.62) AK46(27.94,-7.62) AL1(-29.21,-8.89) AL3(-26.67,-8.89) AL5(-24.13,-8.89) AL7(-21.59,-8.89) AL41(21.59,-8.89) AL43(24.13,-8.89) AL45(26.67,-8.89) AL47(29.21,-8.89) AM2(-27.94,-10.16) AM4(-25.4,-10.16) AM6(-22.86,-10.16) AM8(-20.32,-10.16) AM40(20.32,-10.16) AM42(22.86,-10.16) AM44(25.4,-10.16) AM46(27.94,-10.16) AN1(-29.21,-11.43) AN3(-26.67,-11.43) AN5(-24.13,-11.43) AN7(-21.59,-11.43) AN41(21.59,-11.43) AN43(24.13,-11.43) AN45(26.67,-11.43) AN47(29.21,-11.43) AP2(-27.94,-12.7) AP4(-25.4,-12.7) AP6(-22.86,-12.7) AP8(-20.32,-12.7) AP40(20.32,-12.7) AP42(22.86,-12.7) AP44(25.4,-12.7) AP46(27.94,-12.7) AR1(-29.21,-13.97) AR3(-26.67,-13.97) AR5(-24.13,-13.97) AR7(-21.59,-13.97) AR41(21.59,-13.97) AR43(24.13,-13.97) AR45(26.67,-13.97) AR47(29.21,-13.97) AT2(-27.94,-15.24) AT4(-25.4,-15.24) AT6(-22.86,-15.24) AT8(-20.32,-15.24) AT40(20.32,-15.24) AT42(22.86,-15.24) AT44(25.4,-15.24) AT46(27.94,-15.24) AU1(-29.21,-16.51) AU3(-26.67,-16.51) AU5(-24.13,-16.51) AU7(-21.59,-16.51) AU41(21.59,-16.51) AU43(24.13,-16.51) AU45(26.67,-16.51) AU47(29.21,-16.51) AV2(-27.94,-17.78) AV4(-25.4,-17.78) AV6(-22.86,-17.78) AV8(-20.32,-17.78) AV40(20.32,-17.78) AV42(22.86,-17.78) AV44(25.4,-17.78) AV46(27.94,-17.78) AW1(-29.21,-19.05) AW3(-26.67,-19.05) AW5(-24.13,-19.05) AW7(-21.59,-19.05) AW9(-19.05,-19.05) AW39(19.05,-19.05) AW41(21.59,-19.05) AW43(24.13,-19.05) AW45(26.67,-19.05) AW47(29.21,-19.05) AY2(-27.94,-20.32) AY4(-25.4,-20.32) AY6(-22.86,-20.32) AY8(-20.32,-20.32) AY10(-17.78,-20.32) AY38(17.78,-20.32) AY40(20.32,-20.32) AY42(22.86,-20.32) AY44(25.4,-20.32) AY46(27.94,-20.32) B2(-27.94,27.94) B4(-25.4,27.94) B6(-22.86,27.94) B8(-20.32,27.94) B10(-17.78,27.94) B12(-15.24,27.94) B14(-12.7,27.94) B16(-10.16,27.94) B18(-7.62,27.94) B20(-5.08,27.94) B22(-2.54,27.94) B24(0,27.94) B26(2.54,27.94) B28(5.08,27.94) B30(7.62,27.94) B32(10.16,27.94) B34(12.7,27.94) B36(15.24,27.94) B38(17.78,27.94) B40(20.32,27.94) B42(22.86,27.94) B44(25.4,27.94) B46(27.94,27.94) BA1(-29.21,-21.59) BA3(-26.67,-21.59) BA5(-24.13,-21.59) BA7(-21.59,-21.59) BA9(-19.05,-21.59) BA11(-16.51,-21.59) BA13(-13.97,-21.59) BA15(-11.43,-21.59) BA17(-8.89,-21.59) BA19(-6.35,-21.59) BA21(-3.81,-21.59) BA23(-1.27,-21.59) BA25(1.27,-21.59) BA27(3.81,-21.59) BA29(6.35,-21.59) BA31(8.89,-21.59) BA33(11.43,-21.59) BA35(13.97,-21.59) BA37(16.51,-21.59) BA39(19.05,-21.59) BA41(21.59,-21.59) BA43(24.13,-21.59) BA45(26.67,-21.59) BA47(29.21,-21.59) BB2(-27.94,-22.86) BB4(-25.4,-22.86) BB6(-22.86,-22.86) BB8(-20.32,-22.86) BB10(-17.78,-22.86) BB12(-15.24,-22.86) BB14(-12.7,-22.86) BB16(-10.16,-22.86) BB18(-7.62,-22.86) BB20(-5.08,-22.86) BB22(-2.54,-22.86) BB24(0,-22.86) BB26(2.54,-22.86) BB28(5.08,-22.86) BB30(7.62,-22.86) BB32(10.16,-22.86) BB34(12.7,-22.86) BB36(15.24,-22.86) BB38(17.78,-22.86) BB40(20.32,-22.86) BB42(22.86,-22.86) BB44(25.4,-22.86) BB46(27.94,-22.86) BC1(-29.21,-24.13) BC3(-26.67,-24.13) BC5(-24.13,-24.13) BC7(-21.59,-24.13) BC9(-19.05,-24.13) BC11(-16.51,-24.13) BC13(-13.97,-24.13) BC15(-11.43,-24.13) BC17(-8.89,-24.13) BC19(-6.35,-24.13) BC21(-3.81,-24.13) BC23(-1.27,-24.13) BC25(1.27,-24.13) BC27(3.81,-24.13) BC29(6.35,-24.13) BC31(8.89,-24.13) BC33(11.43,-24.13) BC35(13.97,-24.13) BC37(16.51,-24.13) BC39(19.05,-24.13) BC41(21.59,-24.13) BC43(24.13,-24.13) BC45(26.67,-24.13) BC47(29.21,-24.13) BD2(-27.94,-25.4) BD4(-25.4,-25.4) BD6(-22.86,-25.4) BD8(-20.32,-25.4) BD10(-17.78,-25.4) BD12(-15.24,-25.4) BD14(-12.7,-25.4) BD16(-10.16,-25.4) BD18(-7.62,-25.4) BD20(-5.08,-25.4) BD22(-2.54,-25.4) BD24(0,-25.4) BD26(2.54,-25.4) BD28(5.08,-25.4) BD30(7.62,-25.4) BD32(10.16,-25.4) BD34(12.7,-25.4) BD36(15.24,-25.4) BD38(17.78,-25.4) BD40(20.32,-25.4) BD42(22.86,-25.4) BD44(25.4,-25.4) BD46(27.94,-25.4) BE1(-29.21,-26.67) BE3(-26.67,-26.67) BE5(-24.13,-26.67) BE7(-21.59,-26.67) BE9(-19.05,-26.67) BE11(-16.51,-26.67) BE13(-13.97,-26.67) BE15(-11.43,-26.67) BE17(-8.89,-26.67) BE19(-6.35,-26.67) BE21(-3.81,-26.67) BE23(-1.27,-26.67) BE25(1.27,-26.67) BE27(3.81,-26.67) BE29(6.35,-26.67) BE31(8.89,-26.67) BE33(11.43,-26.67) BE35(13.97,-26.67) BE37(16.51,-26.67) BE39(19.05,-26.67) BE41(21.59,-26.67) BE43(24.13,-26.67) BE45(26.67,-26.67) BE47(29.21,-26.67) BF2(-27.94,-27.94) BF4(-25.4,-27.94) BF6(-22.86,-27.94) BF8(-20.32,-27.94) BF10(-17.78,-27.94) BF12(-15.24,-27.94) BF14(-12.7,-27.94) BF16(-10.16,-27.94) BF18(-7.62,-27.94) BF20(-5.08,-27.94) BF22(-2.54,-27.94) BF24(0,-27.94) BF26(2.54,-27.94) BF28(5.08,-27.94) BF30(7.62,-27.94) BF32(10.16,-27.94) BF34(12.7,-27.94) BF36(15.24,-27.94) BF38(17.78,-27.94) BF40(20.32,-27.94) BF42(22.86,-27.94) BF44(25.4,-27.94) BF46(27.94,-27.94) BG1(-29.21,-29.21) BG3(-26.67,-29.21) BG5(-24.13,-29.21) BG7(-21.59,-29.21) BG9(-19.05,-29.21) BG11(-16.51,-29.21) BG13(-13.97,-29.21) BG15(-11.43,-29.21) BG17(-8.89,-29.21) BG19(-6.35,-29.21) BG21(-3.81,-29.21) BG23(-1.27,-29.21) BG25(1.27,-29.21) BG27(3.81,-29.21) BG29(6.35,-29.21) BG31(8.89,-29.21) BG33(11.43,-29.21) BG35(13.97,-29.21) BG37(16.51,-29.21) BG39(19.05,-29.21) BG41(21.59,-29.21) BG43(24.13,-29.21) BG45(26.67,-29.21) BG47(29.21,-29.21) C1(-29.21,26.67) C3(-26.67,26.67) C5(-24.13,26.67) C7(-21.59,26.67) C9(-19.05,26.67) C11(-16.51,26.67) C13(-13.97,26.67) C15(-11.43,26.67) C17(-8.89,26.67) C19(-6.35,26.67) C21(-3.81,26.67) C23(-1.27,26.67) C25(1.27,26.67) C27(3.81,26.67) C29(6.35,26.67) C31(8.89,26.67) C33(11.43,26.67) C35(13.97,26.67) C37(16.51,26.67) C39(19.05,26.67) C41(21.59,26.67) C43(24.13,26.67) C45(26.67,26.67) C47(29.21,26.67) D2(-27.94,25.4) D4(-25.4,25.4) D6(-22.86,25.4) D8(-20.32,25.4) D10(-17.78,25.4) D12(-15.24,25.4) D14(-12.7,25.4) D16(-10.16,25.4) D18(-7.62,25.4) D20(-5.08,25.4) D22(-2.54,25.4) D24(0,25.4) D26(2.54,25.4) D28(5.08,25.4) D30(7.62,25.4) D32(10.16,25.4) D34(12.7,25.4) D36(15.24,25.4) D38(17.78,25.4) D40(20.32,25.4) D42(22.86,25.4) D44(25.4,25.4) D46(27.94,25.4) E1(-29.21,24.13) E3(-26.67,24.13) E5(-24.13,24.13) E7(-21.59,24.13) E9(-19.05,24.13) E11(-16.51,24.13) E13(-13.97,24.13) E15(-11.43,24.13) E17(-8.89,24.13) E19(-6.35,24.13) E21(-3.81,24.13) E23(-1.27,24.13) E25(1.27,24.13) E27(3.81,24.13) E29(6.35,24.13) E31(8.89,24.13) E33(11.43,24.13) E35(13.97,24.13) E37(16.51,24.13) E39(19.05,24.13) E41(21.59,24.13) E43(24.13,24.13) E45(26.67,24.13) E47(29.21,24.13) F2(-27.94,22.86) F4(-25.4,22.86) F6(-22.86,22.86) F8(-20.32,22.86) F10(-17.78,22.86) F12(-15.24,22.86) F14(-12.7,22.86) F16(-10.16,22.86) F18(-7.62,22.86) F20(-5.08,22.86) F22(-2.54,22.86) F24(0,22.86) F26(2.54,22.86) F28(5.08,22.86) F30(7.62,22.86) F32(10.16,22.86) F34(12.7,22.86) F36(15.24,22.86) F38(17.78,22.86) F40(20.32,22.86) F42(22.86,22.86) F44(25.4,22.86) F46(27.94,22.86) G1(-29.21,21.59) G3(-26.67,21.59) G5(-24.13,21.59) G7(-21.59,21.59) G9(-19.05,21.59) G11(-16.51,21.59) G13(-13.97,21.59) G15(-11.43,21.59) G17(-8.89,21.59) G19(-6.35,21.59) G21(-3.81,21.59) G23(-1.27,21.59) G25(1.27,21.59) G27(3.81,21.59) G29(6.35,21.59) G31(8.89,21.59) G33(11.43,21.59) G35(13.97,21.59) G37(16.51,21.59) G39(19.05,21.59) G41(21.59,21.59) G43(24.13,21.59) G45(26.67,21.59) G47(29.21,21.59) H2(-27.94,20.32) H4(-25.4,20.32) H6(-22.86,20.32) H8(-20.32,20.32) H38(17.78,20.32) H40(20.32,20.32) H42(22.86,20.32) H44(25.4,20.32) H46(27.94,20.32) J1(-29.21,19.05) J3(-26.67,19.05) J5(-24.13,19.05) J7(-21.59,19.05) J39(19.05,19.05) J41(21.59,19.05) J43(24.13,19.05) J45(26.67,19.05) J47(29.21,19.05) K2(-27.94,17.78) K4(-25.4,17.78) K6(-22.86,17.78) K8(-20.32,17.78) K40(20.32,17.78) K42(22.86,17.78) K44(25.4,17.78) K46(27.94,17.78) L1(-29.21,16.51) L3(-26.67,16.51) L5(-24.13,16.51) L7(-21.59,16.51) L41(21.59,16.51) L43(24.13,16.51) L45(26.67,16.51) L47(29.21,16.51) M2(-27.94,15.24) M4(-25.4,15.24) M6(-22.86,15.24) M8(-20.32,15.24) M40(20.32,15.24) M42(22.86,15.24) M44(25.4,15.24) M46(27.94,15.24) N1(-29.21,13.97) N3(-26.67,13.97) N5(-24.13,13.97) N7(-21.59,13.97) N41(21.59,13.97) N43(24.13,13.97) N45(26.67,13.97) N47(29.21,13.97) P2(-27.94,12.7) P4(-25.4,12.7) P6(-22.86,12.7) P8(-20.32,12.7) P40(20.32,12.7) P42(22.86,12.7) P44(25.4,12.7) P46(27.94,12.7) R1(-29.21,11.43) R3(-26.67,11.43) R5(-24.13,11.43) R7(-21.59,11.43) R41(21.59,11.43) R43(24.13,11.43) R45(26.67,11.43) R47(29.21,11.43) T2(-27.94,10.16) T4(-25.4,10.16) T6(-22.86,10.16) T8(-20.32,10.16) T40(20.32,10.16) T42(22.86,10.16) T44(25.4,10.16) T46(27.94,10.16) U1(-29.21,8.89) U3(-26.67,8.89) U5(-24.13,8.89) U7(-21.59,8.89) U41(21.59,8.89) U43(24.13,8.89) U45(26.67,8.89) U47(29.21,8.89) V2(-27.94,7.62) V4(-25.4,7.62) V6(-22.86,7.62) V8(-20.32,7.62) V40(20.32,7.62) V42(22.86,7.62) V44(25.4,7.62) V46(27.94,7.62) W1(-29.21,6.35) W3(-26.67,6.35) W5(-24.13,6.35) W7(-21.59,6.35) W41(21.59,6.35) W43(24.13,6.35) W45(26.67,6.35) W47(29.21,6.35) Y2(-27.94,5.08) Y4(-25.4,5.08) Y6(-22.86,5.08) Y8(-20.32,5.08) Y40(20.32,5.08) Y42(22.86,5.08) Y44(25.4,5.08) Y46(27.94,5.08)
Top Overlay:
  circle w0.25: c-32.1,29.21 r0.125
  lines w0.2: -31.45,-31.45 -31.45,30.45 -30.45,31.45 31.45,31.45 31.45,-31.45 -31.45,-31.45

## PGA655 [mm] "655-Pin Ceramic Pin Grid Array (PGA655)"
height 5.08
pads (655):
  round 1.5 hole 0.9: A3(-26.67,29.21) A5(-24.13,29.21) A7(-21.59,29.21) A9(-19.05,29.21) A11(-16.51,29.21) A13(-13.97,29.21) A15(-11.43,29.21) A17(-8.89,29.21) A19(-6.35,29.21) A21(-3.81,29.21) A23(-1.27,29.21) A25(1.27,29.21) A27(3.81,29.21) A29(6.35,29.21) A31(8.89,29.21) A33(11.43,29.21) A35(13.97,29.21) A37(16.51,29.21) A39(19.05,29.21) A41(21.59,29.21) A43(24.13,29.21) A45(26.67,29.21) A47(29.21,29.21) AA1(-29.21,3.81) AA3(-26.67,3.81) AA5(-24.13,3.81) AA7(-21.59,3.81) AA9(-19.05,3.81) AA39(19.05,3.81) AA41(21.59,3.81) AA43(24.13,3.81) AA45(26.67,3.81) AA47(29.21,3.81) AB2(-27.94,2.54) AB4(-25.4,2.54) AB6(-22.86,2.54) AB8(-20.32,2.54) AB40(20.32,2.54) AB42(22.86,2.54) AB44(25.4,2.54) AB46(27.94,2.54) AC1(-29.21,1.27) AC3(-26.67,1.27) AC5(-24.13,1.27) AC7(-21.59,1.27) AC9(-19.05,1.27) AC39(19.05,1.27) AC41(21.59,1.27) AC43(24.13,1.27) AC45(26.67,1.27) AC47(29.21,1.27) AD2(-27.94,0) AD4(-25.4,0) AD6(-22.86,0) AD8(-20.32,0) AD40(20.32,0) AD42(22.86,0) AD44(25.4,0) AD46(27.94,0) AE1(-29.21,-1.27) AE3(-26.67,-1.27) AE5(-24.13,-1.27) AE7(-21.59,-1.27) AE9(-19.05,-1.27) AE39(19.05,-1.27) AE41(21.59,-1.27) AE43(24.13,-1.27) AE45(26.67,-1.27) AE47(29.21,-1.27) AF2(-27.94,-2.54) AF4(-25.4,-2.54) AF6(-22.86,-2.54) AF8(-20.32,-2.54) AF40(20.32,-2.54) AF42(22.86,-2.54) AF44(25.4,-2.54) AF46(27.94,-2.54) AG1(-29.21,-3.81) AG3(-26.67,-3.81) AG5(-24.13,-3.81) AG7(-21.59,-3.81) AG9(-19.05,-3.81) AG39(19.05,-3.81) AG41(21.59,-3.81) AG43(24.13,-3.81) AG45(26.67,-3.81) AG47(29.21,-3.81) AH2(-27.94,-5.08) AH4(-25.4,-5.08) AH6(-22.86,-5.08) AH8(-20.32,-5.08) AH40(20.32,-5.08) AH42(22.86,-5.08) AH44(25.4,-5.08) AH46(27.94,-5.08) AJ1(-29.21,-6.35) AJ3(-26.67,-6.35) AJ5(-24.13,-6.35) AJ7(-21.59,-6.35) AJ9(-19.05,-6.35) AJ39(19.05,-6.35) AJ41(21.59,-6.35) AJ43(24.13,-6.35) AJ45(26.67,-6.35) AJ47(29.21,-6.35) AK2(-27.94,-7.62) AK4(-25.4,-7.62) AK6(-22.86,-7.62) AK8(-20.32,-7.62) AK40(20.32,-7.62) AK42(22.86,-7.62) AK44(25.4,-7.62) AK46(27.94,-7.62) AL1(-29.21,-8.89) AL3(-26.67,-8.89) AL5(-24.13,-8.89) AL7(-21.59,-8.89) AL9(-19.05,-8.89) AL39(19.05,-8.89) AL41(21.59,-8.89) AL43(24.13,-8.89) AL45(26.67,-8.89) AL47(29.21,-8.89) AM2(-27.94,-10.16) AM4(-25.4,-10.16) AM6(-22.86,-10.16) AM8(-20.32,-10.16) AM40(20.32,-10.16) AM42(22.86,-10.16) AM44(25.4,-10.16) AM46(27.94,-10.16) AN1(-29.21,-11.43) AN3(-26.67,-11.43) AN5(-24.13,-11.43) AN7(-21.59,-11.43) AN9(-19.05,-11.43) AN39(19.05,-11.43) AN41(21.59,-11.43) AN43(24.13,-11.43) AN45(26.67,-11.43) AN47(29.21,-11.43) AP2(-27.94,-12.7) AP4(-25.4,-12.7) AP6(-22.86,-12.7) AP8(-20.32,-12.7) AP40(20.32,-12.7) AP42(22.86,-12.7) AP44(25.4,-12.7) AP46(27.94,-12.7) AR1(-29.21,-13.97) AR3(-26.67,-13.97) AR5(-24.13,-13.97) AR7(-21.59,-13.97) AR9(-19.05,-13.97) AR39(19.05,-13.97) AR41(21.59,-13.97) AR43(24.13,-13.97) AR45(26.67,-13.97) AR47(29.21,-13.97) AT2(-27.94,-15.24) AT4(-25.4,-15.24) AT6(-22.86,-15.24) AT8(-20.32,-15.24) AT40(20.32,-15.24) AT42(22.86,-15.24) AT44(25.4,-15.24) AT46(27.94,-15.24) AU1(-29.21,-16.51) AU3(-26.67,-16.51) AU5(-24.13,-16.51) AU7(-21.59,-16.51) AU9(-19.05,-16.51) AU39(19.05,-16.51) AU41(21.59,-16.51) AU43(24.13,-16.51) AU45(26.67,-16.51) AU47(29.21,-16.51) AV2(-27.94,-17.78) AV4(-25.4,-17.78) AV6(-22.86,-17.78) AV8(-20.32,-17.78) AV40(20.32,-17.78) AV42(22.86,-17.78) AV44(25.4,-17.78) AV46(27.94,-17.78) AW1(-29.21,-19.05) AW3(-26.67,-19.05) AW5(-24.13,-19.05) AW7(-21.59,-19.05) AW9(-19.05,-19.05) AW39(19.05,-19.05) AW41(21.59,-19.05) AW43(24.13,-19.05) AW45(26.67,-19.05) AW47(29.21,-19.05) AY2(-27.94,-20.32) AY4(-25.4,-20.32) AY6(-22.86,-20.32) AY8(-20.32,-20.32) AY10(-17.78,-20.32) AY12(-15.24,-20.32) AY14(-12.7,-20.32) AY16(-10.16,-20.32) AY18(-7.62,-20.32) AY20(-5.08,-20.32) AY22(-2.54,-20.32) AY24(0,-20.32) AY26(2.54,-20.32) AY28(5.08,-20.32) AY30(7.62,-20.32) AY32(10.16,-20.32) AY34(12.7,-20.32) AY36(15.24,-20.32) AY38(17.78,-20.32) AY40(20.32,-20.32) AY42(22.86,-20.32) AY44(25.4,-20.32) AY46(27.94,-20.32) B2(-27.94,27.94) B4(-25.4,27.94) B6(-22.86,27.94) B8(-20.32,27.94) B10(-17.78,27.94) B12(-15.24,27.94) B14(-12.7,27.94) B16(-10.16,27.94) B18(-7.62,27.94) B20(-5.08,27.94) B22(-2.54,27.94) B24(0,27.94) B26(2.54,27.94) B28(5.08,27.94) B30(7.62,27.94) B32(10.16,27.94) B34(12.7,27.94) B36(15.24,27.94) B38(17.78,27.94) B40(20.32,27.94) B42(22.86,27.94) B44(25.4,27.94) B46(27.94,27.94) BA1(-29.21,-21.59) BA3(-26.67,-21.59) BA5(-24.13,-21.59) BA7(-21.59,-21.59) BA9(-19.05,-21.59) BA11(-16.51,-21.59) BA13(-13.97,-21.59) BA15(-11.43,-21.59) BA17(-8.89,-21.59) BA19(-6.35,-21.59) BA21(-3.81,-21.59) BA23(-1.27,-21.59) BA25(1.27,-21.59) BA27(3.81,-21.59) BA29(6.35,-21.59) BA31(8.89,-21.59) BA33(11.43,-21.59) BA35(13.97,-21.59) BA37(16.51,-21.59) BA39(19.05,-21.59) BA41(21.59,-21.59) BA43(24.13,-21.59) BA45(26.67,-21.59) BA47(29.21,-21.59) BB2(-27.94,-22.86) BB4(-25.4,-22.86) BB6(-22.86,-22.86) BB8(-20.32,-22.86) BB10(-17.78,-22.86) BB12(-15.24,-22.86) BB14(-12.7,-22.86) BB16(-10.16,-22.86) BB18(-7.62,-22.86) BB20(-5.08,-22.86) BB22(-2.54,-22.86) BB24(0,-22.86) BB26(2.54,-22.86) BB28(5.08,-22.86) BB30(7.62,-22.86) BB32(10.16,-22.86) BB34(12.7,-22.86) BB36(15.24,-22.86) BB38(17.78,-22.86) BB40(20.32,-22.86) BB42(22.86,-22.86) BB44(25.4,-22.86) BB46(27.94,-22.86) BC1(-29.21,-24.13) BC3(-26.67,-24.13) BC5(-24.13,-24.13) BC7(-21.59,-24.13) BC9(-19.05,-24.13) BC11(-16.51,-24.13) BC13(-13.97,-24.13) BC15(-11.43,-24.13) BC17(-8.89,-24.13) BC19(-6.35,-24.13) BC21(-3.81,-24.13) BC23(-1.27,-24.13) BC25(1.27,-24.13) BC27(3.81,-24.13) BC29(6.35,-24.13) BC31(8.89,-24.13) BC33(11.43,-24.13) BC35(13.97,-24.13) BC37(16.51,-24.13) BC39(19.05,-24.13) BC41(21.59,-24.13) BC43(24.13,-24.13) BC45(26.67,-24.13) BC47(29.21,-24.13) BD2(-27.94,-25.4) BD4(-25.4,-25.4) BD6(-22.86,-25.4) BD8(-20.32,-25.4) BD10(-17.78,-25.4) BD12(-15.24,-25.4) BD14(-12.7,-25.4) BD16(-10.16,-25.4) BD18(-7.62,-25.4) BD20(-5.08,-25.4) BD22(-2.54,-25.4) BD24(0,-25.4) BD26(2.54,-25.4) BD28(5.08,-25.4) BD30(7.62,-25.4) BD32(10.16,-25.4) BD34(12.7,-25.4) BD36(15.24,-25.4) BD38(17.78,-25.4) BD40(20.32,-25.4) BD42(22.86,-25.4) BD44(25.4,-25.4) BD46(27.94,-25.4) BE1(-29.21,-26.67) BE3(-26.67,-26.67) BE5(-24.13,-26.67) BE7(-21.59,-26.67) BE9(-19.05,-26.67) BE11(-16.51,-26.67) BE13(-13.97,-26.67) BE15(-11.43,-26.67) BE17(-8.89,-26.67) BE19(-6.35,-26.67) BE21(-3.81,-26.67) BE23(-1.27,-26.67) BE25(1.27,-26.67) BE27(3.81,-26.67) BE29(6.35,-26.67) BE31(8.89,-26.67) BE33(11.43,-26.67) BE35(13.97,-26.67) BE37(16.51,-26.67) BE39(19.05,-26.67) BE41(21.59,-26.67) BE43(24.13,-26.67) BE45(26.67,-26.67) BE47(29.21,-26.67) BF2(-27.94,-27.94) BF4(-25.4,-27.94) BF6(-22.86,-27.94) BF8(-20.32,-27.94) BF10(-17.78,-27.94) BF12(-15.24,-27.94) BF14(-12.7,-27.94) BF16(-10.16,-27.94) BF18(-7.62,-27.94) BF20(-5.08,-27.94) BF22(-2.54,-27.94) BF24(0,-27.94) BF26(2.54,-27.94) BF28(5.08,-27.94) BF30(7.62,-27.94) BF32(10.16,-27.94) BF34(12.7,-27.94) BF36(15.24,-27.94) BF38(17.78,-27.94) BF40(20.32,-27.94) BF42(22.86,-27.94) BF44(25.4,-27.94) BF46(27.94,-27.94) BG1(-29.21,-29.21) BG3(-26.67,-29.21) BG5(-24.13,-29.21) BG7(-21.59,-29.21) BG9(-19.05,-29.21) BG11(-16.51,-29.21) BG13(-13.97,-29.21) BG15(-11.43,-29.21) BG17(-8.89,-29.21) BG19(-6.35,-29.21) BG21(-3.81,-29.21) BG23(-1.27,-29.21) BG25(1.27,-29.21) BG27(3.81,-29.21) BG29(6.35,-29.21) BG31(8.89,-29.21) BG33(11.43,-29.21) BG35(13.97,-29.21) BG37(16.51,-29.21) BG39(19.05,-29.21) BG41(21.59,-29.21) BG43(24.13,-29.21) BG45(26.67,-29.21) BG47(29.21,-29.21) C1(-29.21,26.67) C3(-26.67,26.67) C5(-24.13,26.67) C7(-21.59,26.67) C9(-19.05,26.67) C11(-16.51,26.67) C13(-13.97,26.67) C15(-11.43,26.67) C17(-8.89,26.67) C19(-6.35,26.67) C21(-3.81,26.67) C23(-1.27,26.67) C25(1.27,26.67) C27(3.81,26.67) C29(6.35,26.67) C31(8.89,26.67) C33(11.43,26.67) C35(13.97,26.67) C37(16.51,26.67) C39(19.05,26.67) C41(21.59,26.67) C43(24.13,26.67) C45(26.67,26.67) C47(29.21,26.67) D2(-27.94,25.4) D4(-25.4,25.4) D6(-22.86,25.4) D8(-20.32,25.4) D10(-17.78,25.4) D12(-15.24,25.4) D14(-12.7,25.4) D16(-10.16,25.4) D18(-7.62,25.4) D20(-5.08,25.4) D22(-2.54,25.4) D24(0,25.4) D26(2.54,25.4) D28(5.08,25.4) D30(7.62,25.4) D32(10.16,25.4) D34(12.7,25.4) D36(15.24,25.4) D38(17.78,25.4) D40(20.32,25.4) D42(22.86,25.4) D44(25.4,25.4) D46(27.94,25.4) E1(-29.21,24.13) E3(-26.67,24.13) E5(-24.13,24.13) E7(-21.59,24.13) E9(-19.05,24.13) E11(-16.51,24.13) E13(-13.97,24.13) E15(-11.43,24.13) E17(-8.89,24.13) E19(-6.35,24.13) E21(-3.81,24.13) E23(-1.27,24.13) E25(1.27,24.13) E27(3.81,24.13) E29(6.35,24.13) E31(8.89,24.13) E33(11.43,24.13) E35(13.97,24.13) E37(16.51,24.13) E39(19.05,24.13) E41(21.59,24.13) E43(24.13,24.13) E45(26.67,24.13) E47(29.21,24.13) F2(-27.94,22.86) F4(-25.4,22.86) F6(-22.86,22.86) F8(-20.32,22.86) F10(-17.78,22.86) F12(-15.24,22.86) F14(-12.7,22.86) F16(-10.16,22.86) F18(-7.62,22.86) F20(-5.08,22.86) F22(-2.54,22.86) F24(0,22.86) F26(2.54,22.86) F28(5.08,22.86) F30(7.62,22.86) F32(10.16,22.86) F34(12.7,22.86) F36(15.24,22.86) F38(17.78,22.86) F40(20.32,22.86) F42(22.86,22.86) F44(25.4,22.86) F46(27.94,22.86) G1(-29.21,21.59) G3(-26.67,21.59) G5(-24.13,21.59) G7(-21.59,21.59) G9(-19.05,21.59) G11(-16.51,21.59) G13(-13.97,21.59) G15(-11.43,21.59) G17(-8.89,21.59) G19(-6.35,21.59) G21(-3.81,21.59) G23(-1.27,21.59) G25(1.27,21.59) G27(3.81,21.59) G29(6.35,21.59) G31(8.89,21.59) G33(11.43,21.59) G35(13.97,21.59) G37(16.51,21.59) G39(19.05,21.59) G41(21.59,21.59) G43(24.13,21.59) G45(26.67,21.59) G47(29.21,21.59) H2(-27.94,20.32) H4(-25.4,20.32) H6(-22.86,20.32) H8(-20.32,20.32) H10(-17.78,20.32) H12(-15.24,20.32) H14(-12.7,20.32) H16(-10.16,20.32) H18(-7.62,20.32) H20(-5.08,20.32) H22(-2.54,20.32) H24(0,20.32) H26(2.54,20.32) H28(5.08,20.32) H30(7.62,20.32) H32(10.16,20.32) H34(12.7,20.32) H36(15.24,20.32) H38(17.78,20.32) H40(20.32,20.32) H42(22.86,20.32) H44(25.4,20.32) H46(27.94,20.32) J1(-29.21,19.05) J3(-26.67,19.05) J5(-24.13,19.05) J7(-21.59,19.05) J9(-19.05,19.05) J39(19.05,19.05) J41(21.59,19.05) J43(24.13,19.05) J45(26.67,19.05) J47(29.21,19.05) K2(-27.94,17.78) K4(-25.4,17.78) K6(-22.86,17.78) K8(-20.32,17.78) K40(20.32,17.78) K42(22.86,17.78) K44(25.4,17.78) K46(27.94,17.78) L1(-29.21,16.51) L3(-26.67,16.51) L5(-24.13,16.51) L7(-21.59,16.51) L9(-19.05,16.51) L39(19.05,16.51) L41(21.59,16.51) L43(24.13,16.51) L45(26.67,16.51) L47(29.21,16.51) M2(-27.94,15.24) M4(-25.4,15.24) M6(-22.86,15.24) M8(-20.32,15.24) M40(20.32,15.24) M42(22.86,15.24) M44(25.4,15.24) M46(27.94,15.24) N1(-29.21,13.97) N3(-26.67,13.97) N5(-24.13,13.97) N7(-21.59,13.97) N9(-19.05,13.97) N39(19.05,13.97) N41(21.59,13.97) N43(24.13,13.97) N45(26.67,13.97) N47(29.21,13.97) P2(-27.94,12.7) P4(-25.4,12.7) P6(-22.86,12.7) P8(-20.32,12.7) P40(20.32,12.7) P42(22.86,12.7) P44(25.4,12.7) P46(27.94,12.7) R1(-29.21,11.43) R3(-26.67,11.43) R5(-24.13,11.43) R7(-21.59,11.43) R9(-19.05,11.43) R39(19.05,11.43) R41(21.59,11.43) R43(24.13,11.43) R45(26.67,11.43) R47(29.21,11.43) T2(-27.94,10.16) T4(-25.4,10.16) T6(-22.86,10.16) T8(-20.32,10.16) T40(20.32,10.16) T42(22.86,10.16) T44(25.4,10.16) T46(27.94,10.16) U1(-29.21,8.89) U3(-26.67,8.89) U5(-24.13,8.89) U7(-21.59,8.89) U9(-19.05,8.89) U39(19.05,8.89) U41(21.59,8.89) U43(24.13,8.89) U45(26.67,8.89) U47(29.21,8.89) V2(-27.94,7.62) V4(-25.4,7.62) V6(-22.86,7.62) V8(-20.32,7.62) V40(20.32,7.62) V42(22.86,7.62) V44(25.4,7.62) V46(27.94,7.62) W1(-29.21,6.35) W3(-26.67,6.35) W5(-24.13,6.35) W7(-21.59,6.35) W9(-19.05,6.35) W39(19.05,6.35) W41(21.59,6.35) W43(24.13,6.35) W45(26.67,6.35) W47(29.21,6.35) Y2(-27.94,5.08) Y4(-25.4,5.08) Y6(-22.86,5.08) Y8(-20.32,5.08) Y40(20.32,5.08) Y42(22.86,5.08) Y44(25.4,5.08) Y46(27.94,5.08)
Top Overlay:
  circle w0.25: c-31.13,29.21 r0.125
  lines w0.2: -30.48,-30.48 -30.48,29.48 -29.48,30.48 30.48,30.48 30.48,-30.48 -30.48,-30.48

## PLCC20_L [mm] "20-Pin Plastic J-Lead Chip Carrier (PLCC20), IPC High Density"
height 4.58
pads (20):
  oval 0.6x2 smd: 1(0,4.2) 2(-1.27,4.2) 3(-2.54,4.2) 9(-2.54,-4.2) 10(-1.27,-4.2) 11(0,-4.2) 12(1.27,-4.2) 13(2.54,-4.2) 19(2.54,4.2) 20(1.27,4.2)
  oval 2x0.6 smd: 4(-4.2,2.54) 5(-4.2,1.27) 6(-4.2,0) 7(-4.2,-1.27) 8(-4.2,-2.54) 14(4.2,-2.54) 15(4.2,-1.27) 16(4.2,0) 17(4.2,1.27) 18(4.2,2.54)
Top Overlay:
  circle w0.25: c0,5.75 r0.125
  circle w0.6: c0,0.8 r0.3
  lines w0.2: 2.8,1.8 -2.8,1.8 ; -2.8,1.8 -1.8,2.8 2.8,2.8 2.8,-2.8 -2.8,-2.8 -2.8,1.8
Mechanical 13:
  circle w0.1: c0,3.62 r0.5
  lines w0.1: -4.52,-4.52 -4.52,4.52 4.52,4.52 4.52,-4.52 -4.52,-4.52
Mechanical 15:
  lines w0.1: -0.5,0 0.5,0 ; 0,-0.5 0,0.5 ; -5.3,-5.3 -5.3,5.3 5.3,5.3 5.3,-5.3 -5.3,-5.3
3D body: height 4.58, standoff 0, extent -4.52,-4.52 4.52,4.52